# Altium footprint library Connector_Samtec_LTMM.PcbLib: 26 footprints (part 1 of 2)
Each footprint in its own frame and in the unit in brackets; x right, y up, seen from the top. Pads: shape width x height; smd on the part's side, far side on the other; paste and mask are expansions set on the pad; w line width, h text height; cw(c..) or ccw(c..) is an arc to the next point about the centre after c.
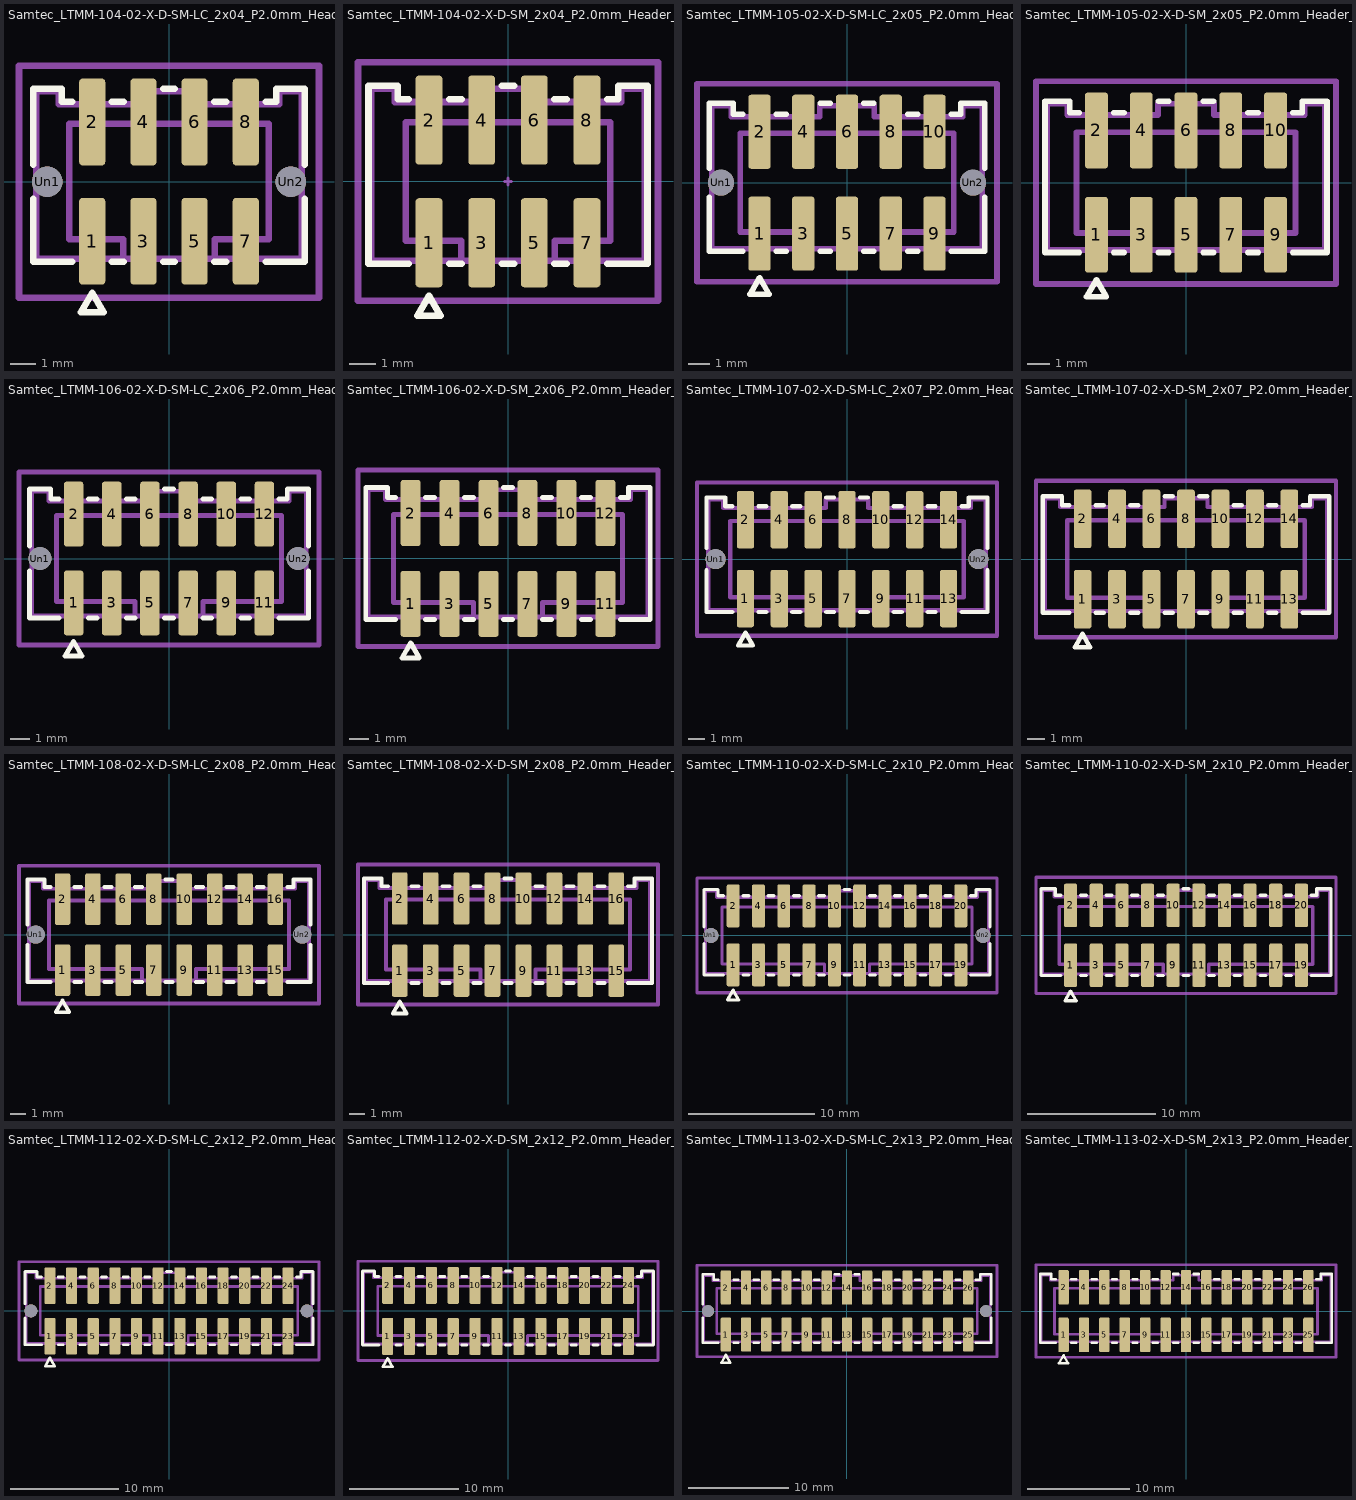
[diagram p0: the footprints below, top view; thin cyan lines are the x and y axes]

## Samtec_LTMM-104-02-X-D-SM-LC_2x04_P2.0mm_Header_Vertical_LockingClip [mm]
pads (10):
  rrect25% 1.02x3.39 smd: 1(-3,-2.33) 2(-3,2.33) 3(-1,-2.33) 4(-1,2.33) 5(1,-2.33) 6(1,2.33) 7(3,-2.33) 8(3,2.33)
  round 1.19 hole 1.19: Un1(-4.76,0) Un2(4.76,0)
F.SilkS:
  lines w0.254: -5.302,-0.662 -5.302,-3.125 -3.77,-3.125 ; -5.302,0.662 -5.302,3.635 -4.193,3.635 -4.193,3.125 -3.77,3.125 ; -2.23,-3.125 -1.77,-3.125 ; -2.23,3.125 -1.77,3.125 ; -0.23,-3.125 0.23,-3.125 ; -0.23,3.635 0.23,3.635 ; 1.77,-3.125 2.23,-3.125 ; 1.77,3.125 2.23,3.125 ; 3.77,-3.125 5.302,-3.125 5.302,-0.662 ; 3.77,3.125 4.193,3.125 4.193,3.635 5.302,3.635 5.302,0.662 ; -3.442,-5.105 -2.558,-5.105 -3,-4.34 -3.442,-5.105
Top Assembly:
  lines w0.254: -3.381,-3.015 -3,-2.253 -2.619,-3.015 ; -1.78,-3.015 -1.78,-2.253 -3.889,-2.253 -3.889,2.253 3.889,2.253 3.889,-2.253 1.78,-2.253 1.78,-3.015 ; -5.192,-3.015 5.192,-3.015 5.192,3.015 5.192,3.525 4.303,3.525 4.303,3.015 1.25,3.015 1.25,3.525 -1.25,3.525 -1.25,3.015 -4.303,3.015 -4.303,3.525 -5.192,3.525 -5.192,-3.015
  text "'.Designator'" at -4.047,-0.84 h1
Top Courtyard:
  lines w0.254: -5.86,-4.53 5.86,-4.53 5.86,4.53 -5.86,4.53 -5.86,-4.53
Top Designator:
  text ".Designator" at -7.618,-0.795 h1.52

## Samtec_LTMM-104-02-X-D-SM_2x04_P2.0mm_Header_Vertical [mm]
pads (8):
  rrect25% 1.02x3.39 smd: 1(-3,-2.33) 2(-3,2.33) 3(-1,-2.33) 4(-1,2.33) 5(1,-2.33) 6(1,2.33) 7(3,-2.33) 8(3,2.33)
F.SilkS:
  lines w0.254: -3.77,-3.125 -5.302,-3.125 -5.302,3.635 -4.193,3.635 -4.193,3.125 -3.77,3.125 ; -2.23,-3.125 -1.77,-3.125 ; -2.23,3.125 -1.77,3.125 ; -0.23,-3.125 0.23,-3.125 ; -0.23,3.635 0.23,3.635 ; 1.77,-3.125 2.23,-3.125 ; 1.77,3.125 2.23,3.125 ; 3.77,-3.125 5.302,-3.125 5.302,3.635 4.193,3.635 4.193,3.125 3.77,3.125 ; -3.442,-5.105 -2.558,-5.105 -3,-4.34 -3.442,-5.105
Top Component Center:
  lines w0.127: -0.127,0 0.127,0 ; 0,-0.127 0,0.127
Top Assembly:
  lines w0.254: -3.381,-3.015 -3,-2.253 -2.619,-3.015 ; -1.78,-3.015 -1.78,-2.253 -3.889,-2.253 -3.889,2.253 3.889,2.253 3.889,-2.253 1.78,-2.253 1.78,-3.015 ; -5.192,-3.015 5.192,-3.015 5.192,3.015 5.192,3.525 4.303,3.525 4.303,3.015 1.25,3.015 1.25,3.525 -1.25,3.525 -1.25,3.015 -4.303,3.015 -4.303,3.525 -5.192,3.525 -5.192,-3.015
  text "'.Designator'" at -4.047,-0.84 h1
Top Courtyard:
  lines w0.254: -5.7,-4.53 5.7,-4.53 5.7,4.53 -5.7,4.53 -5.7,-4.53
Top Designator:
  text ".Designator" at -7.618,-0.795 h1.52

## Samtec_LTMM-105-02-X-D-SM-LC_2x05_P2.0mm_Header_Vertical_LockingClip [mm]
pads (12):
  rrect25% 1.02x3.39 smd: 1(-4,-2.33) 2(-4,2.33) 3(-2,-2.33) 4(-2,2.33) 5(0,-2.33) 6(0,2.33) 7(2,-2.33) 8(2,2.33) 9(4,-2.33) 10(4,2.33)
  round 1.19 hole 1.19: Un1(-5.76,0) Un2(5.76,0)
F.SilkS:
  lines w0.254: -6.302,-0.662 -6.302,-3.125 -4.77,-3.125 ; -6.302,0.662 -6.302,3.635 -5.192,3.635 -5.192,3.125 -4.77,3.125 ; -3.23,-3.125 -2.77,-3.125 ; -3.23,3.125 -2.77,3.125 ; -1.23,-3.125 -0.77,-3.125 ; -1.23,3.635 -0.77,3.635 ; 0.77,-3.125 1.23,-3.125 ; 0.77,3.635 1.23,3.635 ; 2.77,-3.125 3.23,-3.125 ; 2.77,3.125 3.23,3.125 ; 4.77,-3.125 6.302,-3.125 6.302,-0.662 ; 4.77,3.125 5.192,3.125 5.192,3.635 6.302,3.635 6.302,0.662 ; -4.442,-5.105 -3.558,-5.105 -4,-4.34 -4.442,-5.105
Top Assembly:
  lines w0.254: -4.381,-3.015 -4,-2.253 -3.619,-3.015 ; -1.78,-3.015 -1.78,-2.253 -4.889,-2.253 -4.889,2.253 4.889,2.253 4.889,-2.253 1.78,-2.253 1.78,-3.015 ; -6.191,-3.015 6.191,-3.015 6.191,3.015 6.191,3.525 5.302,3.525 5.302,3.015 1.25,3.015 1.25,3.525 -1.25,3.525 -1.25,3.015 -5.302,3.015 -5.302,3.525 -6.191,3.525 -6.191,-3.015
  text "'.Designator'" at -4.047,-0.84 h1
Top Courtyard:
  lines w0.254: -6.86,-4.53 6.86,-4.53 6.86,4.53 -6.86,4.53 -6.86,-4.53
Top Designator:
  text ".Designator" at -7.618,-0.795 h1.52

## Samtec_LTMM-105-02-X-D-SM_2x05_P2.0mm_Header_Vertical [mm]
pads (10):
  rrect25% 1.02x3.39 smd: 1(-4,-2.33) 2(-4,2.33) 3(-2,-2.33) 4(-2,2.33) 5(0,-2.33) 6(0,2.33) 7(2,-2.33) 8(2,2.33) 9(4,-2.33) 10(4,2.33)
F.SilkS:
  lines w0.254: -4.77,-3.125 -6.302,-3.125 -6.302,3.635 -5.192,3.635 -5.192,3.125 -4.77,3.125 ; -3.23,-3.125 -2.77,-3.125 ; -3.23,3.125 -2.77,3.125 ; -1.23,-3.125 -0.77,-3.125 ; -1.23,3.635 -0.77,3.635 ; 0.77,-3.125 1.23,-3.125 ; 0.77,3.635 1.23,3.635 ; 2.77,-3.125 3.23,-3.125 ; 2.77,3.125 3.23,3.125 ; 4.77,-3.125 6.302,-3.125 6.302,3.635 5.192,3.635 5.192,3.125 4.77,3.125 ; -4.442,-5.105 -3.558,-5.105 -4,-4.34 -4.442,-5.105
Top Assembly:
  lines w0.254: -4.381,-3.015 -4,-2.253 -3.619,-3.015 ; -1.78,-3.015 -1.78,-2.253 -4.889,-2.253 -4.889,2.253 4.889,2.253 4.889,-2.253 1.78,-2.253 1.78,-3.015 ; -6.191,-3.015 6.191,-3.015 6.191,3.015 6.191,3.525 5.302,3.525 5.302,3.015 1.25,3.015 1.25,3.525 -1.25,3.525 -1.25,3.015 -5.302,3.015 -5.302,3.525 -6.191,3.525 -6.191,-3.015
  text "'.Designator'" at -4.047,-0.84 h1
Top Courtyard:
  lines w0.254: -6.7,-4.53 6.7,-4.53 6.7,4.53 -6.7,4.53 -6.7,-4.53
Top Designator:
  text ".Designator" at -7.618,-0.795 h1.52

## Samtec_LTMM-106-02-X-D-SM-LC_2x06_P2.0mm_Header_Vertical_LockingClip [mm]
pads (14):
  rrect25% 1.02x3.39 smd: 1(-5,-2.33) 2(-5,2.33) 3(-3,-2.33) 4(-3,2.33) 5(-1,-2.33) 6(-1,2.33) 7(1,-2.33) 8(1,2.33) 9(3,-2.33) 10(3,2.33) 11(5,-2.33) 12(5,2.33)
  round 1.19 hole 1.19: Un1(-6.76,0) Un2(6.76,0)
F.SilkS:
  lines w0.254: -7.301,-0.662 -7.301,-3.125 -5.77,-3.125 ; -7.301,0.662 -7.301,3.635 -6.192,3.635 -6.192,3.125 -5.77,3.125 ; -4.23,-3.125 -3.77,-3.125 ; -4.23,3.125 -3.77,3.125 ; -2.23,-3.125 -1.77,-3.125 ; -2.23,3.125 -1.77,3.125 ; -0.23,-3.125 0.23,-3.125 ; -0.23,3.635 0.23,3.635 ; 1.77,-3.125 2.23,-3.125 ; 1.77,3.125 2.23,3.125 ; 3.77,-3.125 4.23,-3.125 ; 3.77,3.125 4.23,3.125 ; 5.77,-3.125 7.301,-3.125 7.301,-0.662 ; 5.77,3.125 6.192,3.125 6.192,3.635 7.301,3.635 7.301,0.662 ; -5.442,-5.105 -4.558,-5.105 -5,-4.34 -5.442,-5.105
Top Assembly:
  lines w0.254: -5.381,-3.015 -5,-2.253 -4.619,-3.015 ; -1.78,-3.015 -1.78,-2.253 -5.889,-2.253 -5.889,2.253 5.889,2.253 5.889,-2.253 1.78,-2.253 1.78,-3.015 ; -7.191,-3.015 7.191,-3.015 7.191,3.015 7.191,3.525 6.302,3.525 6.302,3.015 1.25,3.015 1.25,3.525 -1.25,3.525 -1.25,3.015 -6.302,3.015 -6.302,3.525 -7.191,3.525 -7.191,-3.015
  text "'.Designator'" at -4.047,-0.84 h1
Top Courtyard:
  lines w0.254: -7.86,-4.53 7.86,-4.53 7.86,4.53 -7.86,4.53 -7.86,-4.53
Top Designator:
  text ".Designator" at -7.618,-0.795 h1.52

## Samtec_LTMM-106-02-X-D-SM_2x06_P2.0mm_Header_Vertical [mm]
pads (12):
  rrect25% 1.02x3.39 smd: 1(-5,-2.33) 2(-5,2.33) 3(-3,-2.33) 4(-3,2.33) 5(-1,-2.33) 6(-1,2.33) 7(1,-2.33) 8(1,2.33) 9(3,-2.33) 10(3,2.33) 11(5,-2.33) 12(5,2.33)
F.SilkS:
  lines w0.254: -5.77,-3.125 -7.301,-3.125 -7.301,3.635 -6.192,3.635 -6.192,3.125 -5.77,3.125 ; -4.23,-3.125 -3.77,-3.125 ; -4.23,3.125 -3.77,3.125 ; -2.23,-3.125 -1.77,-3.125 ; -2.23,3.125 -1.77,3.125 ; -0.23,-3.125 0.23,-3.125 ; -0.23,3.635 0.23,3.635 ; 1.77,-3.125 2.23,-3.125 ; 1.77,3.125 2.23,3.125 ; 3.77,-3.125 4.23,-3.125 ; 3.77,3.125 4.23,3.125 ; 5.77,-3.125 7.301,-3.125 7.301,3.635 6.192,3.635 6.192,3.125 5.77,3.125 ; -5.442,-5.105 -4.558,-5.105 -5,-4.34 -5.442,-5.105
Top Assembly:
  lines w0.254: -5.381,-3.015 -5,-2.253 -4.619,-3.015 ; -1.78,-3.015 -1.78,-2.253 -5.889,-2.253 -5.889,2.253 5.889,2.253 5.889,-2.253 1.78,-2.253 1.78,-3.015 ; -7.191,-3.015 7.191,-3.015 7.191,3.015 7.191,3.525 6.302,3.525 6.302,3.015 1.25,3.015 1.25,3.525 -1.25,3.525 -1.25,3.015 -6.302,3.015 -6.302,3.525 -7.191,3.525 -7.191,-3.015
  text "'.Designator'" at -4.047,-0.84 h1
Top Courtyard:
  lines w0.254: -7.7,-4.53 7.7,-4.53 7.7,4.53 -7.7,4.53 -7.7,-4.53
Top Designator:
  text ".Designator" at -7.618,-0.795 h1.52

## Samtec_LTMM-107-02-X-D-SM-LC_2x07_P2.0mm_Header_Vertical_LockingClip [mm]
pads (16):
  rrect25% 1.02x3.39 smd: 1(-6,-2.33) 2(-6,2.33) 3(-4,-2.33) 4(-4,2.33) 5(-2,-2.33) 6(-2,2.33) 7(0,-2.33) 8(0,2.33) 9(2,-2.33) 10(2,2.33) 11(4,-2.33) 12(4,2.33) 13(6,-2.33) 14(6,2.33)
  round 1.19 hole 1.19: Un1(-7.76,0) Un2(7.76,0)
F.SilkS:
  lines w0.254: -8.301,-0.662 -8.301,-3.125 -6.77,-3.125 ; -8.301,0.662 -8.301,3.635 -7.193,3.635 -7.193,3.125 -6.77,3.125 ; -5.23,-3.125 -4.77,-3.125 ; -5.23,3.125 -4.77,3.125 ; -3.23,-3.125 -2.77,-3.125 ; -3.23,3.125 -2.77,3.125 ; -1.23,-3.125 -0.77,-3.125 ; -1.23,3.635 -0.77,3.635 ; 0.77,-3.125 1.23,-3.125 ; 0.77,3.635 1.23,3.635 ; 2.77,-3.125 3.23,-3.125 ; 2.77,3.125 3.23,3.125 ; 4.77,-3.125 5.23,-3.125 ; 4.77,3.125 5.23,3.125 ; 6.77,-3.125 8.301,-3.125 8.301,-0.662 ; 6.77,3.125 7.193,3.125 7.193,3.635 8.301,3.635 8.301,0.662 ; -6.442,-5.105 -5.558,-5.105 -6,-4.34 -6.442,-5.105
Top Assembly:
  lines w0.254: -6.381,-3.015 -6,-2.253 -5.619,-3.015 ; -1.78,-3.015 -1.78,-2.253 -6.889,-2.253 -6.889,2.253 6.889,2.253 6.889,-2.253 1.78,-2.253 1.78,-3.015 ; -8.191,-3.015 8.191,-3.015 8.191,3.015 8.191,3.525 7.302,3.525 7.302,3.015 1.25,3.015 1.25,3.525 -1.25,3.525 -1.25,3.015 -7.302,3.015 -7.302,3.525 -8.191,3.525 -8.191,-3.015
  text "'.Designator'" at -4.047,-0.84 h1
Top Courtyard:
  lines w0.254: -8.86,-4.53 8.86,-4.53 8.86,4.53 -8.86,4.53 -8.86,-4.53
Top Designator:
  text ".Designator" at -7.618,-0.795 h1.52

## Samtec_LTMM-107-02-X-D-SM_2x07_P2.0mm_Header_Vertical [mm]
pads (14):
  rrect25% 1.02x3.39 smd: 1(-6,-2.33) 2(-6,2.33) 3(-4,-2.33) 4(-4,2.33) 5(-2,-2.33) 6(-2,2.33) 7(0,-2.33) 8(0,2.33) 9(2,-2.33) 10(2,2.33) 11(4,-2.33) 12(4,2.33) 13(6,-2.33) 14(6,2.33)
F.SilkS:
  lines w0.254: -6.77,-3.125 -8.301,-3.125 -8.301,3.635 -7.193,3.635 -7.193,3.125 -6.77,3.125 ; -5.23,-3.125 -4.77,-3.125 ; -5.23,3.125 -4.77,3.125 ; -3.23,-3.125 -2.77,-3.125 ; -3.23,3.125 -2.77,3.125 ; -1.23,-3.125 -0.77,-3.125 ; -1.23,3.635 -0.77,3.635 ; 0.77,-3.125 1.23,-3.125 ; 0.77,3.635 1.23,3.635 ; 2.77,-3.125 3.23,-3.125 ; 2.77,3.125 3.23,3.125 ; 4.77,-3.125 5.23,-3.125 ; 4.77,3.125 5.23,3.125 ; 6.77,-3.125 8.301,-3.125 8.301,3.635 7.193,3.635 7.193,3.125 6.77,3.125 ; -6.442,-5.105 -5.558,-5.105 -6,-4.34 -6.442,-5.105
Top Assembly:
  lines w0.254: -6.381,-3.015 -6,-2.253 -5.619,-3.015 ; -1.78,-3.015 -1.78,-2.253 -6.889,-2.253 -6.889,2.253 6.889,2.253 6.889,-2.253 1.78,-2.253 1.78,-3.015 ; -8.191,-3.015 8.191,-3.015 8.191,3.015 8.191,3.525 7.302,3.525 7.302,3.015 1.25,3.015 1.25,3.525 -1.25,3.525 -1.25,3.015 -7.302,3.015 -7.302,3.525 -8.191,3.525 -8.191,-3.015
  text "'.Designator'" at -4.047,-0.84 h1
Top Courtyard:
  lines w0.254: -8.7,-4.53 8.7,-4.53 8.7,4.53 -8.7,4.53 -8.7,-4.53
Top Designator:
  text ".Designator" at -7.618,-0.795 h1.52

## Samtec_LTMM-108-02-X-D-SM-LC_2x08_P2.0mm_Header_Vertical_LockingClip [mm]
pads (18):
  rrect25% 1.02x3.39 smd: 1(-7,-2.33) 2(-7,2.33) 3(-5,-2.33) 4(-5,2.33) 5(-3,-2.33) 6(-3,2.33) 7(-1,-2.33) 8(-1,2.33) 9(1,-2.33) 10(1,2.33) 11(3,-2.33) 12(3,2.33) 13(5,-2.33) 14(5,2.33) 15(7,-2.33) 16(7,2.33)
  round 1.19 hole 1.19: Un1(-8.76,0) Un2(8.76,0)
F.SilkS:
  lines w0.254: -9.302,-0.662 -9.302,-3.125 -7.77,-3.125 ; -9.302,0.662 -9.302,3.635 -8.193,3.635 -8.193,3.125 -7.77,3.125 ; -6.23,-3.125 -5.77,-3.125 ; -6.23,3.125 -5.77,3.125 ; -4.23,-3.125 -3.77,-3.125 ; -4.23,3.125 -3.77,3.125 ; -2.23,-3.125 -1.77,-3.125 ; -2.23,3.125 -1.77,3.125 ; -0.23,-3.125 0.23,-3.125 ; -0.23,3.635 0.23,3.635 ; 1.77,-3.125 2.23,-3.125 ; 1.77,3.125 2.23,3.125 ; 3.77,-3.125 4.23,-3.125 ; 3.77,3.125 4.23,3.125 ; 5.77,-3.125 6.23,-3.125 ; 5.77,3.125 6.23,3.125 ; 7.77,-3.125 9.302,-3.125 9.302,-0.662 ; 7.77,3.125 8.193,3.125 8.193,3.635 9.302,3.635 9.302,0.662 ; -7.442,-5.105 -6.558,-5.105 -7,-4.34 -7.442,-5.105
Top Assembly:
  lines w0.254: -7.381,-3.015 -7,-2.253 -6.619,-3.015 ; -1.78,-3.015 -1.78,-2.253 -7.889,-2.253 -7.889,2.253 7.889,2.253 7.889,-2.253 1.78,-2.253 1.78,-3.015 ; -9.192,-3.015 9.192,-3.015 9.192,3.015 9.192,3.525 8.303,3.525 8.303,3.015 1.25,3.015 1.25,3.525 -1.25,3.525 -1.25,3.015 -8.303,3.015 -8.303,3.525 -9.192,3.525 -9.192,-3.015
  text "'.Designator'" at -4.047,-0.84 h1
Top Courtyard:
  lines w0.254: -9.86,-4.53 9.86,-4.53 9.86,4.53 -9.86,4.53 -9.86,-4.53
Top Designator:
  text ".Designator" at -7.618,-0.795 h1.52

## Samtec_LTMM-108-02-X-D-SM_2x08_P2.0mm_Header_Vertical [mm]
pads (16):
  rrect25% 1.02x3.39 smd: 1(-7,-2.33) 2(-7,2.33) 3(-5,-2.33) 4(-5,2.33) 5(-3,-2.33) 6(-3,2.33) 7(-1,-2.33) 8(-1,2.33) 9(1,-2.33) 10(1,2.33) 11(3,-2.33) 12(3,2.33) 13(5,-2.33) 14(5,2.33) 15(7,-2.33) 16(7,2.33)
F.SilkS:
  lines w0.254: -7.77,-3.125 -9.302,-3.125 -9.302,3.635 -8.193,3.635 -8.193,3.125 -7.77,3.125 ; -6.23,-3.125 -5.77,-3.125 ; -6.23,3.125 -5.77,3.125 ; -4.23,-3.125 -3.77,-3.125 ; -4.23,3.125 -3.77,3.125 ; -2.23,-3.125 -1.77,-3.125 ; -2.23,3.125 -1.77,3.125 ; -0.23,-3.125 0.23,-3.125 ; -0.23,3.635 0.23,3.635 ; 1.77,-3.125 2.23,-3.125 ; 1.77,3.125 2.23,3.125 ; 3.77,-3.125 4.23,-3.125 ; 3.77,3.125 4.23,3.125 ; 5.77,-3.125 6.23,-3.125 ; 5.77,3.125 6.23,3.125 ; 7.77,-3.125 9.302,-3.125 9.302,3.635 8.193,3.635 8.193,3.125 7.77,3.125 ; -7.442,-5.105 -6.558,-5.105 -7,-4.34 -7.442,-5.105
Top Assembly:
  lines w0.254: -7.381,-3.015 -7,-2.253 -6.619,-3.015 ; -1.78,-3.015 -1.78,-2.253 -7.889,-2.253 -7.889,2.253 7.889,2.253 7.889,-2.253 1.78,-2.253 1.78,-3.015 ; -9.192,-3.015 9.192,-3.015 9.192,3.015 9.192,3.525 8.303,3.525 8.303,3.015 1.25,3.015 1.25,3.525 -1.25,3.525 -1.25,3.015 -8.303,3.015 -8.303,3.525 -9.192,3.525 -9.192,-3.015
  text "'.Designator'" at -4.047,-0.84 h1
Top Courtyard:
  lines w0.254: -9.7,-4.53 9.7,-4.53 9.7,4.53 -9.7,4.53 -9.7,-4.53
Top Designator:
  text ".Designator" at -7.618,-0.795 h1.52

## Samtec_LTMM-110-02-X-D-SM-LC_2x10_P2.0mm_Header_Vertical_LockingClip [mm]
pads (22):
  rrect25% 1.02x3.39 smd: 1(-9,-2.33) 2(-9,2.33) 3(-7,-2.33) 4(-7,2.33) 5(-5,-2.33) 6(-5,2.33) 7(-3,-2.33) 8(-3,2.33) 9(-1,-2.33) 10(-1,2.33) 11(1,-2.33) 12(1,2.33) 13(3,-2.33) 14(3,2.33) 15(5,-2.33) 16(5,2.33) 17(7,-2.33) 18(7,2.33) 19(9,-2.33) 20(9,2.33)
  round 1.19 hole 1.19: Un1(-10.76,0) Un2(10.76,0)
F.SilkS:
  lines w0.254: -11.301,-0.662 -11.301,-3.125 -9.77,-3.125 ; -11.301,0.662 -11.301,3.635 -10.192,3.635 -10.192,3.125 -9.77,3.125 ; -8.23,-3.125 -7.77,-3.125 ; -8.23,3.125 -7.77,3.125 ; -6.23,-3.125 -5.77,-3.125 ; -6.23,3.125 -5.77,3.125 ; -4.23,-3.125 -3.77,-3.125 ; -4.23,3.125 -3.77,3.125 ; -2.23,-3.125 -1.77,-3.125 ; -2.23,3.125 -1.77,3.125 ; -0.23,-3.125 0.23,-3.125 ; -0.23,3.635 0.23,3.635 ; 1.77,-3.125 2.23,-3.125 ; 1.77,3.125 2.23,3.125 ; 3.77,-3.125 4.23,-3.125 ; 3.77,3.125 4.23,3.125 ; 5.77,-3.125 6.23,-3.125 ; 5.77,3.125 6.23,3.125 ; 7.77,-3.125 8.23,-3.125 ; 7.77,3.125 8.23,3.125 ; 9.77,-3.125 11.301,-3.125 11.301,-0.662 ; 9.77,3.125 10.192,3.125 10.192,3.635 11.301,3.635 11.301,0.662 ; -9.442,-5.105 -8.558,-5.105 -9,-4.34 -9.442,-5.105
Top Assembly:
  lines w0.254: -9.381,-3.015 -9,-2.253 -8.619,-3.015 ; -1.78,-3.015 -1.78,-2.253 -9.889,-2.253 -9.889,2.253 9.889,2.253 9.889,-2.253 1.78,-2.253 1.78,-3.015 ; -11.191,-3.015 11.191,-3.015 11.191,3.015 11.191,3.525 10.302,3.525 10.302,3.015 1.25,3.015 1.25,3.525 -1.25,3.525 -1.25,3.015 -10.302,3.015 -10.302,3.525 -11.191,3.525 -11.191,-3.015
  text "'.Designator'" at -4.047,-0.84 h1
Top Courtyard:
  lines w0.254: -11.86,-4.53 11.86,-4.53 11.86,4.53 -11.86,4.53 -11.86,-4.53
Top Designator:
  text ".Designator" at -7.618,-0.795 h1.52

## Samtec_LTMM-110-02-X-D-SM_2x10_P2.0mm_Header_Vertical [mm]
pads (20):
  rrect25% 1.02x3.39 smd: 1(-9,-2.33) 2(-9,2.33) 3(-7,-2.33) 4(-7,2.33) 5(-5,-2.33) 6(-5,2.33) 7(-3,-2.33) 8(-3,2.33) 9(-1,-2.33) 10(-1,2.33) 11(1,-2.33) 12(1,2.33) 13(3,-2.33) 14(3,2.33) 15(5,-2.33) 16(5,2.33) 17(7,-2.33) 18(7,2.33) 19(9,-2.33) 20(9,2.33)
F.SilkS:
  lines w0.254: -9.77,-3.125 -11.301,-3.125 -11.301,3.635 -10.192,3.635 -10.192,3.125 -9.77,3.125 ; -8.23,-3.125 -7.77,-3.125 ; -8.23,3.125 -7.77,3.125 ; -6.23,-3.125 -5.77,-3.125 ; -6.23,3.125 -5.77,3.125 ; -4.23,-3.125 -3.77,-3.125 ; -4.23,3.125 -3.77,3.125 ; -2.23,-3.125 -1.77,-3.125 ; -2.23,3.125 -1.77,3.125 ; -0.23,-3.125 0.23,-3.125 ; -0.23,3.635 0.23,3.635 ; 1.77,-3.125 2.23,-3.125 ; 1.77,3.125 2.23,3.125 ; 3.77,-3.125 4.23,-3.125 ; 3.77,3.125 4.23,3.125 ; 5.77,-3.125 6.23,-3.125 ; 5.77,3.125 6.23,3.125 ; 7.77,-3.125 8.23,-3.125 ; 7.77,3.125 8.23,3.125 ; 9.77,-3.125 11.301,-3.125 11.301,3.635 10.192,3.635 10.192,3.125 9.77,3.125 ; -9.442,-5.105 -8.558,-5.105 -9,-4.34 -9.442,-5.105
Top Assembly:
  lines w0.254: -9.381,-3.015 -9,-2.253 -8.619,-3.015 ; -1.78,-3.015 -1.78,-2.253 -9.889,-2.253 -9.889,2.253 9.889,2.253 9.889,-2.253 1.78,-2.253 1.78,-3.015 ; -11.191,-3.015 11.191,-3.015 11.191,3.015 11.191,3.525 10.302,3.525 10.302,3.015 1.25,3.015 1.25,3.525 -1.25,3.525 -1.25,3.015 -10.302,3.015 -10.302,3.525 -11.191,3.525 -11.191,-3.015
  text "'.Designator'" at -4.047,-0.84 h1
Top Courtyard:
  lines w0.254: -11.7,-4.53 11.7,-4.53 11.7,4.53 -11.7,4.53 -11.7,-4.53
Top Designator:
  text ".Designator" at -7.618,-0.795 h1.52

## Samtec_LTMM-112-02-X-D-SM-LC_2x12_P2.0mm_Header_Vertical_LockingClip [mm]
pads (26):
  rrect25% 1.02x3.39 smd: 1(-11,-2.33) 2(-11,2.33) 3(-9,-2.33) 4(-9,2.33) 5(-7,-2.33) 6(-7,2.33) 7(-5,-2.33) 8(-5,2.33) 9(-3,-2.33) 10(-3,2.33) 11(-1,-2.33) 12(-1,2.33) 13(1,-2.33) 14(1,2.33) 15(3,-2.33) 16(3,2.33) 17(5,-2.33) 18(5,2.33) 19(7,-2.33) 20(7,2.33) 21(9,-2.33) 22(9,2.33) 23(11,-2.33) 24(11,2.33)
  round 1.19 hole 1.19: Un1(-12.76,0) Un2(12.76,0)
F.SilkS:
  lines w0.254: -13.301,-0.662 -13.301,-3.125 -11.77,-3.125 ; -13.301,0.662 -13.301,3.635 -12.193,3.635 -12.193,3.125 -11.77,3.125 ; -10.23,-3.125 -9.77,-3.125 ; -10.23,3.125 -9.77,3.125 ; -8.23,-3.125 -7.77,-3.125 ; -8.23,3.125 -7.77,3.125 ; -6.23,-3.125 -5.77,-3.125 ; -6.23,3.125 -5.77,3.125 ; -4.23,-3.125 -3.77,-3.125 ; -4.23,3.125 -3.77,3.125 ; -2.23,-3.125 -1.77,-3.125 ; -2.23,3.125 -1.77,3.125 ; -0.23,-3.125 0.23,-3.125 ; -0.23,3.635 0.23,3.635 ; 1.77,-3.125 2.23,-3.125 ; 1.77,3.125 2.23,3.125 ; 3.77,-3.125 4.23,-3.125 ; 3.77,3.125 4.23,3.125 ; 5.77,-3.125 6.23,-3.125 ; 5.77,3.125 6.23,3.125 ; 7.77,-3.125 8.23,-3.125 ; 7.77,3.125 8.23,3.125 ; 9.77,-3.125 10.23,-3.125 ; 9.77,3.125 10.23,3.125 ; 11.77,-3.125 13.301,-3.125 13.301,-0.662 ; 11.77,3.125 12.193,3.125 12.193,3.635 13.301,3.635 13.301,0.662 ; -11.442,-5.105 -10.558,-5.105 -11,-4.34 -11.442,-5.105
Top Assembly:
  lines w0.254: -11.381,-3.015 -11,-2.253 -10.619,-3.015 ; -1.78,-3.015 -1.78,-2.253 -11.889,-2.253 -11.889,2.253 11.889,2.253 11.889,-2.253 1.78,-2.253 1.78,-3.015 ; -13.192,-3.015 13.192,-3.015 13.192,3.015 13.192,3.525 12.303,3.525 12.303,3.015 1.25,3.015 1.25,3.525 -1.25,3.525 -1.25,3.015 -12.303,3.015 -12.303,3.525 -13.192,3.525 -13.192,-3.015
  text "'.Designator'" at -4.047,-0.84 h1
Top Courtyard:
  lines w0.254: -13.86,-4.53 13.86,-4.53 13.86,4.53 -13.86,4.53 -13.86,-4.53
Top Designator:
  text ".Designator" at -7.618,-0.795 h1.52

## Samtec_LTMM-112-02-X-D-SM_2x12_P2.0mm_Header_Vertical [mm]
pads (24):
  rrect25% 1.02x3.39 smd: 1(-11,-2.33) 2(-11,2.33) 3(-9,-2.33) 4(-9,2.33) 5(-7,-2.33) 6(-7,2.33) 7(-5,-2.33) 8(-5,2.33) 9(-3,-2.33) 10(-3,2.33) 11(-1,-2.33) 12(-1,2.33) 13(1,-2.33) 14(1,2.33) 15(3,-2.33) 16(3,2.33) 17(5,-2.33) 18(5,2.33) 19(7,-2.33) 20(7,2.33) 21(9,-2.33) 22(9,2.33) 23(11,-2.33) 24(11,2.33)
F.SilkS:
  lines w0.254: -11.77,-3.125 -13.301,-3.125 -13.301,3.635 -12.193,3.635 -12.193,3.125 -11.77,3.125 ; -10.23,-3.125 -9.77,-3.125 ; -10.23,3.125 -9.77,3.125 ; -8.23,-3.125 -7.77,-3.125 ; -8.23,3.125 -7.77,3.125 ; -6.23,-3.125 -5.77,-3.125 ; -6.23,3.125 -5.77,3.125 ; -4.23,-3.125 -3.77,-3.125 ; -4.23,3.125 -3.77,3.125 ; -2.23,-3.125 -1.77,-3.125 ; -2.23,3.125 -1.77,3.125 ; -0.23,-3.125 0.23,-3.125 ; -0.23,3.635 0.23,3.635 ; 1.77,-3.125 2.23,-3.125 ; 1.77,3.125 2.23,3.125 ; 3.77,-3.125 4.23,-3.125 ; 3.77,3.125 4.23,3.125 ; 5.77,-3.125 6.23,-3.125 ; 5.77,3.125 6.23,3.125 ; 7.77,-3.125 8.23,-3.125 ; 7.77,3.125 8.23,3.125 ; 9.77,-3.125 10.23,-3.125 ; 9.77,3.125 10.23,3.125 ; 11.77,-3.125 13.301,-3.125 13.301,3.635 12.193,3.635 12.193,3.125 11.77,3.125 ; -11.442,-5.105 -10.558,-5.105 -11,-4.34 -11.442,-5.105
Top Assembly:
  lines w0.254: -11.381,-3.015 -11,-2.253 -10.619,-3.015 ; -1.78,-3.015 -1.78,-2.253 -11.889,-2.253 -11.889,2.253 11.889,2.253 11.889,-2.253 1.78,-2.253 1.78,-3.015 ; -13.192,-3.015 13.192,-3.015 13.192,3.015 13.192,3.525 12.303,3.525 12.303,3.015 1.25,3.015 1.25,3.525 -1.25,3.525 -1.25,3.015 -12.303,3.015 -12.303,3.525 -13.192,3.525 -13.192,-3.015
  text "'.Designator'" at -4.047,-0.84 h1
Top Courtyard:
  lines w0.254: -13.7,-4.53 13.7,-4.53 13.7,4.53 -13.7,4.53 -13.7,-4.53
Top Designator:
  text ".Designator" at -7.618,-0.795 h1.52

## Samtec_LTMM-113-02-X-D-SM-LC_2x13_P2.0mm_Header_Vertical_LockingClip [mm]
pads (28):
  rrect25% 1.02x3.39 smd: 1(-12,-2.33) 2(-12,2.33) 3(-10,-2.33) 4(-10,2.33) 5(-8,-2.33) 6(-8,2.33) 7(-6,-2.33) 8(-6,2.33) 9(-4,-2.33) 10(-4,2.33) 11(-2,-2.33) 12(-2,2.33) 13(0,-2.33) 14(0,2.33) 15(2,-2.33) 16(2,2.33) 17(4,-2.33) 18(4,2.33) 19(6,-2.33) 20(6,2.33) 21(8,-2.33) 22(8,2.33) 23(10,-2.33) 24(10,2.33) 25(12,-2.33) 26(12,2.33)
  round 1.19 hole 1.19: Un1(-13.76,0) Un2(13.76,0)
F.SilkS:
  lines w0.254: -14.302,-0.662 -14.302,-3.125 -12.77,-3.125 ; -14.302,0.662 -14.302,3.635 -13.193,3.635 -13.193,3.125 -12.77,3.125 ; -11.23,-3.125 -10.77,-3.125 ; -11.23,3.125 -10.77,3.125 ; -9.23,-3.125 -8.77,-3.125 ; -9.23,3.125 -8.77,3.125 ; -7.23,-3.125 -6.77,-3.125 ; -7.23,3.125 -6.77,3.125 ; -5.23,-3.125 -4.77,-3.125 ; -5.23,3.125 -4.77,3.125 ; -3.23,-3.125 -2.77,-3.125 ; -3.23,3.125 -2.77,3.125 ; -1.23,-3.125 -0.77,-3.125 ; -1.23,3.635 -0.77,3.635 ; 0.77,-3.125 1.23,-3.125 ; 0.77,3.635 1.23,3.635 ; 2.77,-3.125 3.23,-3.125 ; 2.77,3.125 3.23,3.125 ; 4.77,-3.125 5.23,-3.125 ; 4.77,3.125 5.23,3.125 ; 6.77,-3.125 7.23,-3.125 ; 6.77,3.125 7.23,3.125 ; 8.77,-3.125 9.23,-3.125 ; 8.77,3.125 9.23,3.125 ; 10.77,-3.125 11.23,-3.125 ; 10.77,3.125 11.23,3.125 ; 12.77,-3.125 14.302,-3.125 14.302,-0.662 ; 12.77,3.125 13.193,3.125 13.193,3.635 14.302,3.635 14.302,0.662 ; -12.442,-5.105 -11.558,-5.105 -12,-4.34 -12.442,-5.105
Top Assembly:
  lines w0.254: -12.381,-3.015 -12,-2.253 -11.619,-3.015 ; -1.78,-3.015 -1.78,-2.253 -12.889,-2.253 -12.889,2.253 12.889,2.253 12.889,-2.253 1.78,-2.253 1.78,-3.015 ; -14.192,-3.015 14.192,-3.015 14.192,3.015 14.192,3.525 13.303,3.525 13.303,3.015 1.25,3.015 1.25,3.525 -1.25,3.525 -1.25,3.015 -13.303,3.015 -13.303,3.525 -14.192,3.525 -14.192,-3.015
  text "'.Designator'" at -4.047,-0.84 h1
Top Courtyard:
  lines w0.254: -14.86,-4.53 14.86,-4.53 14.86,4.53 -14.86,4.53 -14.86,-4.53
Top Designator:
  text ".Designator" at -7.618,-0.795 h1.52

## Samtec_LTMM-113-02-X-D-SM_2x13_P2.0mm_Header_Vertical [mm]
pads (26):
  rrect25% 1.02x3.39 smd: 1(-12,-2.33) 2(-12,2.33) 3(-10,-2.33) 4(-10,2.33) 5(-8,-2.33) 6(-8,2.33) 7(-6,-2.33) 8(-6,2.33) 9(-4,-2.33) 10(-4,2.33) 11(-2,-2.33) 12(-2,2.33) 13(0,-2.33) 14(0,2.33) 15(2,-2.33) 16(2,2.33) 17(4,-2.33) 18(4,2.33) 19(6,-2.33) 20(6,2.33) 21(8,-2.33) 22(8,2.33) 23(10,-2.33) 24(10,2.33) 25(12,-2.33) 26(12,2.33)
F.SilkS:
  lines w0.254: -12.77,-3.125 -14.302,-3.125 -14.302,3.635 -13.193,3.635 -13.193,3.125 -12.77,3.125 ; -11.23,-3.125 -10.77,-3.125 ; -11.23,3.125 -10.77,3.125 ; -9.23,-3.125 -8.77,-3.125 ; -9.23,3.125 -8.77,3.125 ; -7.23,-3.125 -6.77,-3.125 ; -7.23,3.125 -6.77,3.125 ; -5.23,-3.125 -4.77,-3.125 ; -5.23,3.125 -4.77,3.125 ; -3.23,-3.125 -2.77,-3.125 ; -3.23,3.125 -2.77,3.125 ; -1.23,-3.125 -0.77,-3.125 ; -1.23,3.635 -0.77,3.635 ; 0.77,-3.125 1.23,-3.125 ; 0.77,3.635 1.23,3.635 ; 2.77,-3.125 3.23,-3.125 ; 2.77,3.125 3.23,3.125 ; 4.77,-3.125 5.23,-3.125 ; 4.77,3.125 5.23,3.125 ; 6.77,-3.125 7.23,-3.125 ; 6.77,3.125 7.23,3.125 ; 8.77,-3.125 9.23,-3.125 ; 8.77,3.125 9.23,3.125 ; 10.77,-3.125 11.23,-3.125 ; 10.77,3.125 11.23,3.125 ; 12.77,-3.125 14.302,-3.125 14.302,3.635 13.193,3.635 13.193,3.125 12.77,3.125 ; -12.442,-5.105 -11.558,-5.105 -12,-4.34 -12.442,-5.105
Top Assembly:
  lines w0.254: -12.381,-3.015 -12,-2.253 -11.619,-3.015 ; -1.78,-3.015 -1.78,-2.253 -12.889,-2.253 -12.889,2.253 12.889,2.253 12.889,-2.253 1.78,-2.253 1.78,-3.015 ; -14.192,-3.015 14.192,-3.015 14.192,3.015 14.192,3.525 13.303,3.525 13.303,3.015 1.25,3.015 1.25,3.525 -1.25,3.525 -1.25,3.015 -13.303,3.015 -13.303,3.525 -14.192,3.525 -14.192,-3.015
  text "'.Designator'" at -4.047,-0.84 h1
Top Courtyard:
  lines w0.254: -14.7,-4.53 14.7,-4.53 14.7,4.53 -14.7,4.53 -14.7,-4.53
Top Designator:
  text ".Designator" at -7.618,-0.795 h1.52